# EAGLE library part SN74HC42 (library Kas-Buffers & Level Shifters)
SN74HC42 in a SOIC-16 package (4:10 Decoder)
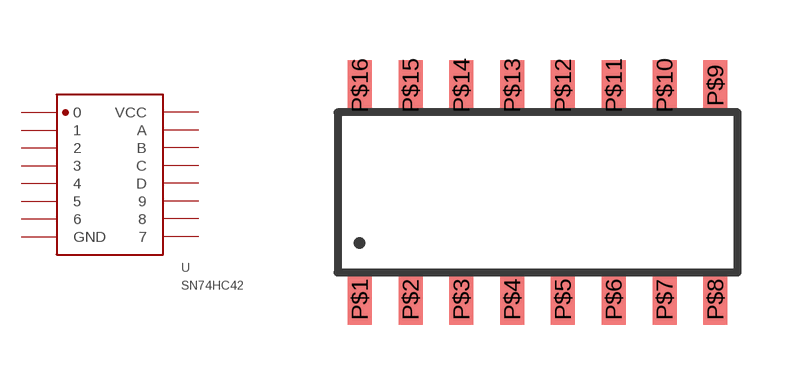
[diagram p2: symbol with the pads of SOIC-16; footprint SOIC-16]

Designator prefix U

## SN74HC42  [SOIC-16]
P$1  0
P$2  1
P$3  2
P$4  3
P$5  4
P$6  5
P$7  6
P$8  GND
P$9  7
P$10  8
P$11  9
P$12  D
P$13  C
P$14  B
P$15  A
P$16  VCC

## Footprint SOIC-16 (pad centres in mm)
smd 0.6 x 1.27: P$1 -4.445,-2.675; P$2 -3.175,-2.675; P$3 -1.905,-2.675; P$4 -0.635,-2.675; P$5 0.635,-2.675; P$6 1.905,-2.675; P$7 3.175,-2.675; P$8 4.445,-2.675; P$9 4.445,2.675; P$10 3.175,2.675; P$11 1.905,2.675; P$12 0.635,2.675; P$13 -0.635,2.675; P$14 -1.905,2.675; P$15 -3.175,2.675; P$16 -4.445,2.675